# Altium schematic symbol library ACJS-MHD.SchLib: 1 symbol
Pins are listed as number, name and electrical type; pins without a type are passive.

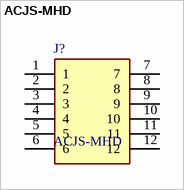
[diagram p0: symbol ACJS-MHD]

## ACJS-MHD
designator J?
1/4" Dual Horizonal PCB Phone Jack, Stereo, Metal Bore, Metal Nut, Plastic Thread/ Smap-fit PCB; Manufacturer_Name: Amphenol Sine Systems; Geometry.Height: 29.37mm; Manufacturer_Part_Number: ACJS-MHD; Mouser Part Number: *; Mouser Price/Stock: *; Arrow Part Number: ACJS-MHD; Arrow Price/Stock: https://www.arrow.com/en/products/acjs-mhd/amphenol?utm_currency=USD&region=nac; Datasheet Link: https://www.amphenol-sine.com/pdf/datasheet/ACJS-MHD.pdf
footprint ACJSMHD
pins: 1, 2, 3, 4, 5, 6, 7, 8, 9, 10, 11, 12